# EAGLE library part HIDPROXPOINT (library Johnboiles)
HID ProxPoint Plus RFID badge reader
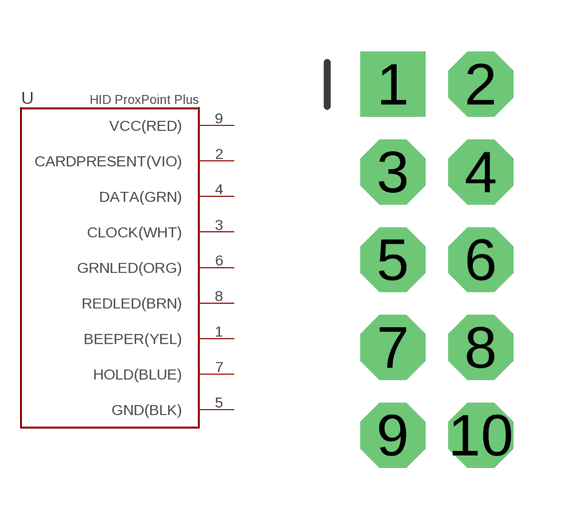
[diagram p1: symbol with the pads of 2X5; footprint 2X5]

Designator prefix -

## HIDPROXPOINT  [2X5]
1  BEEPER(YEL)
2  CARDPRESENT(VIO)
3  CLOCK(WHT)
4  DATA(GRN)
5  GND(BLK)
6  GRNLED(ORG)
7  HOLD(BLUE)
8  REDLED(BRN)
9  VCC(RED)

## Footprint 2X5 (pad centres in mm)
drill 1.016 pad 1.88 square: 1 -1.27,5.08
drill 1.016 pad 1.88 octagon: 2 1.27,5.08; 3 -1.27,2.54; 4 1.27,2.54; 5 -1.27,0; 6 1.27,0; 7 -1.27,-2.54; 8 1.27,-2.54; 9 -1.27,-5.08; 10 1.27,-5.08